# EAGLE library part SIP32509DT-T1-GE3 (library SIP32509DT-T1-GE3)
Power Switch ICs - Power Distribution 1.1V to 5.5V Slew Rt 3A Cntrld Load Swtch Source: Datasheet <https://componentsearchengine.com/Datasheets/1/SIP32509DT-T1-GE3.pdf>
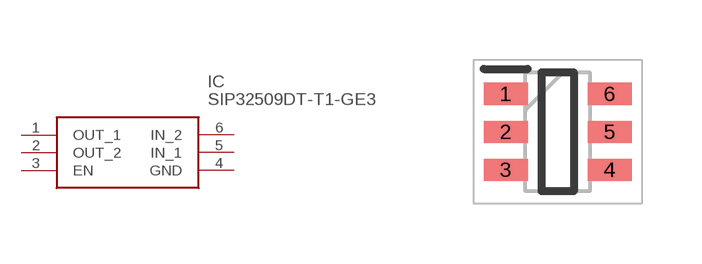
[diagram p0: symbol with the pads of SOT95P284X110-6N; footprint SOT95P284X110-6N]

Designator prefix IC

## SIP32509DT-T1-GE3 (Arrow_Part_Number: SIP32509DT-T1-GE3; Arrow_Price-Stock: https://www.arrow.com/en/products/sip32509dt-t1-ge3/vishay?region=nac; Description: Power Switch ICs - Power Distribution 1.1V to 5.5V Slew Rt 3A Cntrld Load Swtch; Height: 1.1mm; Manufacturer_Name: Vishay; Manufacturer_Part_Number: SIP32509DT-T1-GE3; Mouser_Part_Number: 78-SIP32509DT-T1-GE3; Mouser_Price-Stock: https://www.mouser.co.uk/ProductDetail/Vishay-Siliconix/SIP32509DT-T1-GE3?qs=vCSEJkzpMVhwEQErQ51M%2Fw%3D%3D)  [SOT95P284X110-6N]
1  OUT_1  out
2  OUT_2  out
3  EN  in
4  GND  pwr
5  IN_1  pwr
6  IN_2  pwr

## Footprint SOT95P284X110-6N (pad centres in mm)
SOT23-6
smd 1.1 x 0.55: 1 -1.3,0.95; 2 -1.3,0; 3 -1.3,-0.95; 4 1.3,-0.95; 5 1.3,0; 6 1.3,0.95